# Altium schematic symbol library Crystals.SchLib: 4 symbols
Pins are listed as number, name and electrical type; pins without a type are passive.

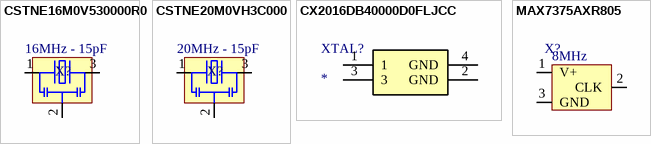
[diagram p0: symbols CSTNE16M0V530000R0 to MAX7375AXR805]

## CSTNE16M0V530000R0
designator X?  value 16MHz - 15pF  (hidden comment: CSTNE16M0V530000R0)
CERAMIC RES 16.0000MHZ 15PF SMD; Precision: ±0.20%; Mounted: Yes; Supplier 1: Digi-Key; Supplier Part Number 1: 490-17948-2-ND; Package / Case: 3-SMD 3.20mm x 1.30mm
footprint Resonator-CSTNE (Murata CSTNE series resonator. Built from CSTNE20M0VH3C000R0 datasheet)
pins: 1, 2, 3

## CSTNE20M0VH3C000
designator X?  value 20MHz - 15pF  (hidden comment: CSTNE20M0VH3C000)
CERAMIC RES 20.0000MHZ 15PF SMD; Precision: ±0.20%; Mounted: Yes; Supplier 1: Digi-Key; Supplier Part Number 1: 490-17956-1-ND; Package / Case: 3-SMD 3.20mm x 1.30mm
footprint Resonator-CSTNE (Murata CSTNE series resonator. Built from CSTNE20M0VH3C000R0 datasheet)
pins: 1, 2, 3

## CX2016DB40000D0FLJCC
designator XTAL?
No Description Available; Mfr_Name: KYOCERA AVX; Manufacturer Part Number: CX2016DB40000D0FLJCC; RefDes: RefDes; Type: Type; Supplier Part Number 1: 478-CX2016DB40000D0FLJCCCT-ND
footprint OSC_XRCGB32M000F2P01R0
pins: 1, 2 GND (power), 3, 4 GND (power)

## MAX7375AXR805
designator X?  value 8MHz  (hidden comment: MAX7375AXR805)
MEMS OSC XO 8.0000MHZ CMOS SMD; Mounted: Yes; Supplier 1: Digi-Key; Supplier Part Number 1: MAX7375AXR805+TCT-ND; Package / Case: SOT-23; helpURL: https://www.analog.com/media/en/technical-documentation/data-sheets/max7375.pdf
footprint SOT-23-3 (SOT23-3, from TI DBZ (R-PDSO-G3))
pins: 1 V+, 2 CLK, 3 GND